# EAGLE library part GDM12864H (library bt)
GDM12864H Graphic LCD
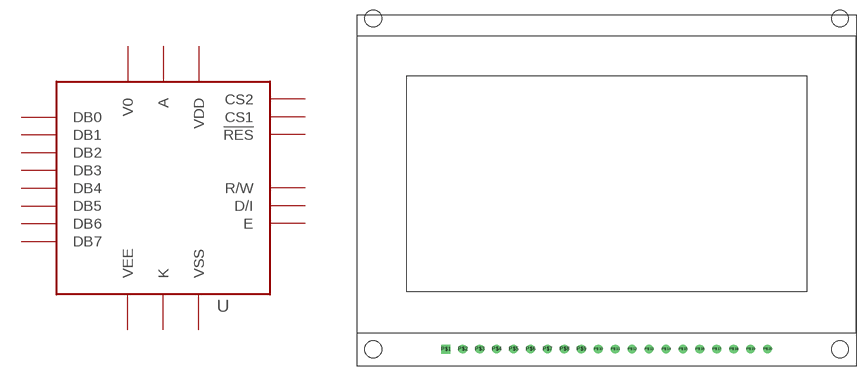
[diagram p4: symbol with the pads of GDM12864H; footprint GDM12864H]

Designator prefix -

## GDM12864H  [GDM12864H]
P$1  VDD
P$2  VSS
P$3  V0
P$4  DB0
P$5  DB1
P$6  DB2
P$7  DB3
P$8  DB4
P$9  DB5
P$10  DB6
P$11  DB7
P$12  CS2
P$13  CS1
P$14  !RES
P$15  R/W
P$16  D/I
P$17  E
P$18  VEE
P$19  A
P$20  K

## Footprint GDM12864H (pad centres in mm)
GDM12864H Graphic LCD
drill 0.8 square: P$1 13.399,2.5
drill 0.8: P$2 15.938,2.54; P$3 18.479,2.54; P$4 21.018,2.54; P$5 23.558,2.54; P$6 26.099,2.54; P$7 28.639,2.54; P$8 31.178,2.54; P$9 33.718,2.54; P$10 36.258,2.54; P$11 38.798,2.54; P$12 41.339,2.54; P$13 43.879,2.54; P$14 46.419,2.54; P$15 48.959,2.54; P$16 51.498,2.54; P$17 54.038,2.54; P$18 56.578,2.54; P$19 59.118,2.54; P$20 61.658,2.54
hole 2.5 at 2.5,2.5
hole 2.5 at 72.5,2.5
hole 2.5 at 2.5,52.2
hole 2.5 at 72.5,52.2